# EAGLE library part MRF89XA (library Mine)
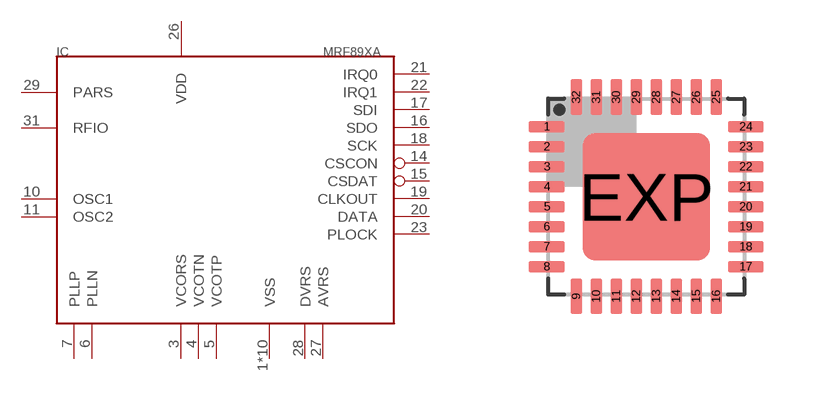
[diagram p80: symbol with the pads of QFN32; footprint QFN32]

Designator prefix IC

## MRF89XA  [QFN32]
1  VSS  sup
2  VSS  sup
3  VCORS  out
4  VCOTN
5  VCOTP
6  PLLN
7  PLLP
8  VSS  sup
9  VSS  sup
10  OSC1  in
11  OSC2  in
12  VSS  sup
14  CSCON  in
15  CSDAT  in
16  SDO  out
17  SDI  in
18  SCK  in
19  CLKOUT  out
20  DATA
21  IRQ0  out
22  IRQ1  out
23  PLOCK  out
24  VSS  sup
25  VSS  sup
26  VDD  sup
27  AVRS  out
28  DVRS  out
29  PARS  out
30  VSS  sup
31  RFIO
32  VSS  sup
EXP  VSS  sup

## Footprint QFN32 (pad centres in mm)
QFN 32 5 x 5 mm Source: http://datasheets.maxim-ic.com/en/ds/MAX7042.pdf
smd 0.9 x 0.3: 1 -2.489,1.75; 2 -2.489,1.25; 3 -2.489,0.75; 4 -2.489,0.25; 5 -2.489,-0.25; 6 -2.489,-0.75; 7 -2.489,-1.25; 8 -2.489,-1.75; 17 2.489,-1.75; 18 2.489,-1.25; 19 2.489,-0.75; 20 2.489,-0.25; 21 2.489,0.25; 22 2.489,0.75; 23 2.489,1.25; 24 2.489,1.75
smd 0.3 x 0.9: 9 -1.75,-2.489; 10 -1.25,-2.489; 11 -0.75,-2.489; 12 -0.25,-2.489; 13 0.25,-2.489; 14 0.75,-2.489; 15 1.25,-2.489; 16 1.75,-2.489; 25 1.75,2.489; 26 1.25,2.489; 27 0.75,2.489; 28 0.25,2.489; 29 -0.25,2.489; 30 -0.75,2.489; 31 -1.25,2.489; 32 -1.75,2.489
smd 3.2 x 3.2: EXP 0,0